# Altium footprint library LDD-C514RI.PcbLib: 1 footprints
Each footprint in its own frame and in the unit in brackets; x right, y up, seen from the top. Pads: shape width x height; smd on the part's side, far side on the other; paste and mask are expansions set on the pad; w line width, h text height; cw(c..) or ccw(c..) is an arc to the next point about the centre after c.
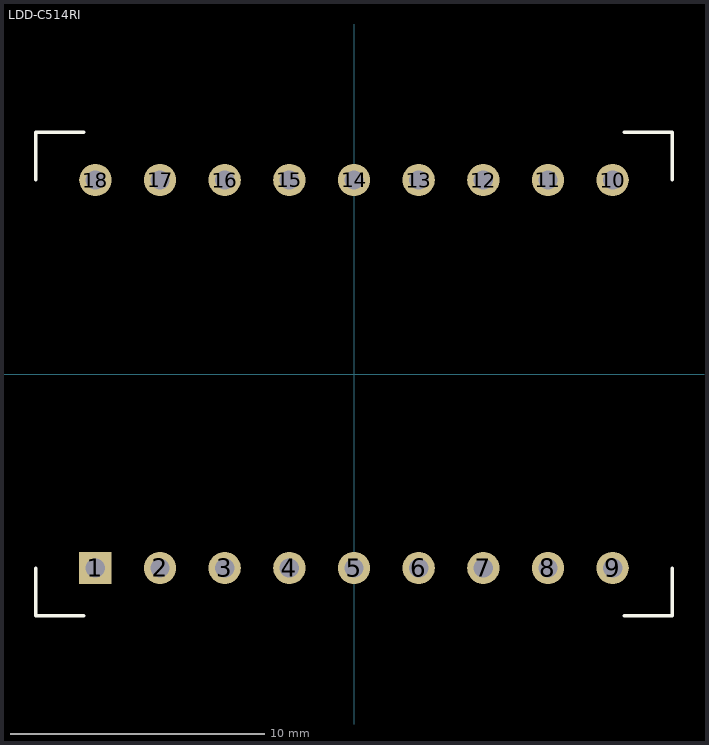
[diagram p0: the footprint, top view; thin cyan lines are the x and y axes]

## LDD-C514RI [mil]
pads (18):
  rect 50x50 hole 30: 1(-400,-300)
  round 50 hole 30: 2(-300,-300) 3(-200,-300) 4(-100,-300) 5(0,-300) 6(100,-300) 7(200,-300) 8(300,-300) 9(400,-300) 10(400,300) 11(300,300) 12(200,300) 13(100,300) 14(0,300) 15(-100,300) 16(-200,300) 17(-300,300) 18(-400,300)
Top Overlay:
  lines w5: -492.13,-300 -492.13,-374 -418.13,-374 ; -492.13,300 -492.13,374 -418.13,374 ; 418.13,-374 492.13,-374 492.13,-300 ; 418.13,374 492.13,374 492.13,300
3D body: height 314.96, standoff 0, extent -492.13,-374.02 492.13,374.02